# EAGLE library part PIC18C2*2? (library micro-pic18xxx)
High-Performance Microcontrollers with 10-Bit A/D
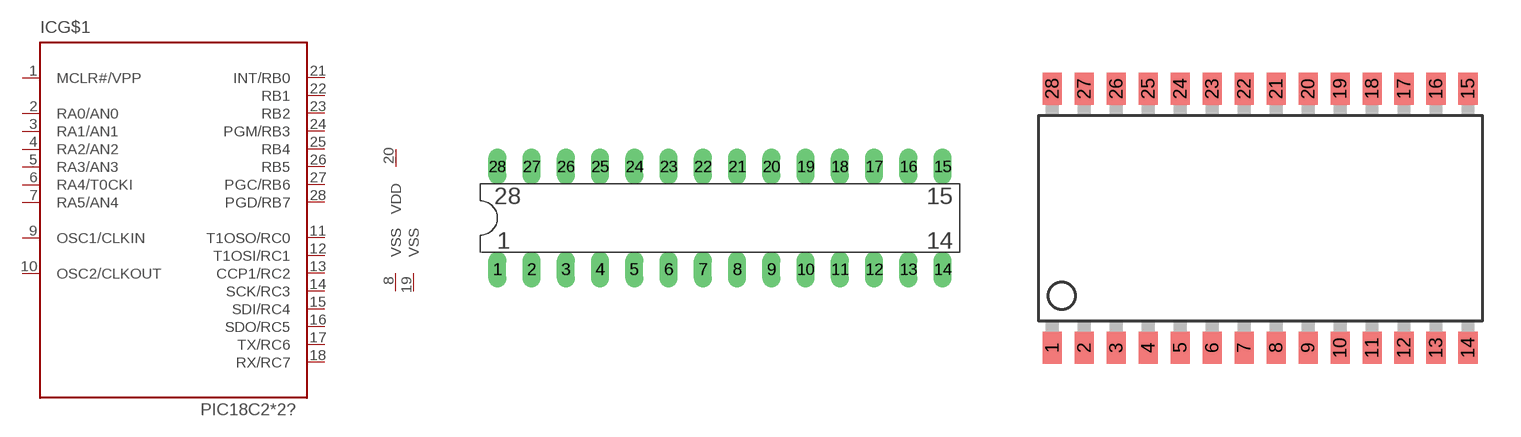
[diagram p1: symbol with the pads of DIL28-3; footprints DIL28-3, SO-28W]

Designator prefix IC; gates G$1=ABC VDD=VDD VSS1=VSS VSS2=VSS

## PIC18C242SP, PIC18C252SP  [DIL28-3]
1  G$1:MCLR#/VPP  in
2  G$1:RA0/AN0
3  G$1:RA1/AN1
4  G$1:RA2/AN2
5  G$1:RA3/AN3
6  G$1:RA4/T0CKI
7  G$1:RA5/AN4
8  VSS1:VSS  pwr
9  G$1:OSC1/CLKIN  in
10  G$1:OSC2/CLKOUT  out
11  G$1:T1OSO/RC0
12  G$1:T1OSI/RC1
13  G$1:CCP1/RC2
14  G$1:SCK/RC3
15  G$1:SDI/RC4
16  G$1:SDO/RC5
17  G$1:TX/RC6
18  G$1:RX/RC7
19  VSS2:VSS  pwr
20  VDD:VDD  pwr
21  G$1:INT/RB0
22  G$1:RB1
23  G$1:RB2
24  G$1:PGM/RB3
25  G$1:RB4
26  G$1:RB5
27  G$1:PGC/RB6
28  G$1:PGD/RB7

## PIC18C242SO, PIC18C252SO  [SO-28W]
Pads as for DIL28-3

## Footprint DIL28-3 (pad centres in mm)
DIL package type P
drill 0.813 long: 1 -16.51,-3.81; 2 -13.97,-3.81; 3 -11.43,-3.81; 4 -8.89,-3.81; 5 -6.35,-3.81; 6 -3.81,-3.81; 7 -1.27,-3.81; 8 1.27,-3.81; 9 3.81,-3.81; 10 6.35,-3.81; 11 8.89,-3.81; 12 11.43,-3.81; 13 13.97,-3.81; 14 16.51,-3.81; 15 16.51,3.81; 16 13.97,3.81; 17 11.43,3.81; 18 8.89,3.81; 19 6.35,3.81; 20 3.81,3.81; 21 1.27,3.81; 22 -1.27,3.81; 23 -3.81,3.81; 24 -6.35,3.81; 25 -8.89,3.81; 26 -11.43,3.81; 27 -13.97,3.81; 28 -16.51,3.81

## Footprint SO-28W (pad centres in mm)
Small Outline Wide Plastic Gull Wing 300-mil body package type SO
smd 0.762 x 1.27: 1 -7.62,-5.207; 2 -6.35,-5.207; 3 -5.08,-5.207; 4 -3.81,-5.207; 5 -2.54,-5.207; 6 -1.27,-5.207; 7 0,-5.207; 8 1.27,-5.207; 9 2.54,-5.207; 10 3.81,-5.207; 11 5.08,-5.207; 12 6.35,-5.207; 13 7.62,-5.207; 14 8.89,-5.207; 15 8.89,5.08; 16 7.62,5.08; 17 6.35,5.08; 18 5.08,5.08; 19 3.81,5.08; 20 2.54,5.08; 21 1.27,5.08; 22 0,5.08; 23 -1.27,5.08; 24 -2.54,5.08; 25 -3.81,5.08; 26 -5.08,5.08; 27 -6.35,5.08; 28 -7.62,5.08